# Altium footprint library TVS Diode Unidirectional 14V.PcbLib: 1 footprints
Each footprint in its own frame and in the unit in brackets; x right, y up, seen from the top. Pads: shape width x height; smd on the part's side, far side on the other; paste and mask are expansions set on the pad; w line width, h text height; cw(c..) or ccw(c..) is an arc to the next point about the centre after c.
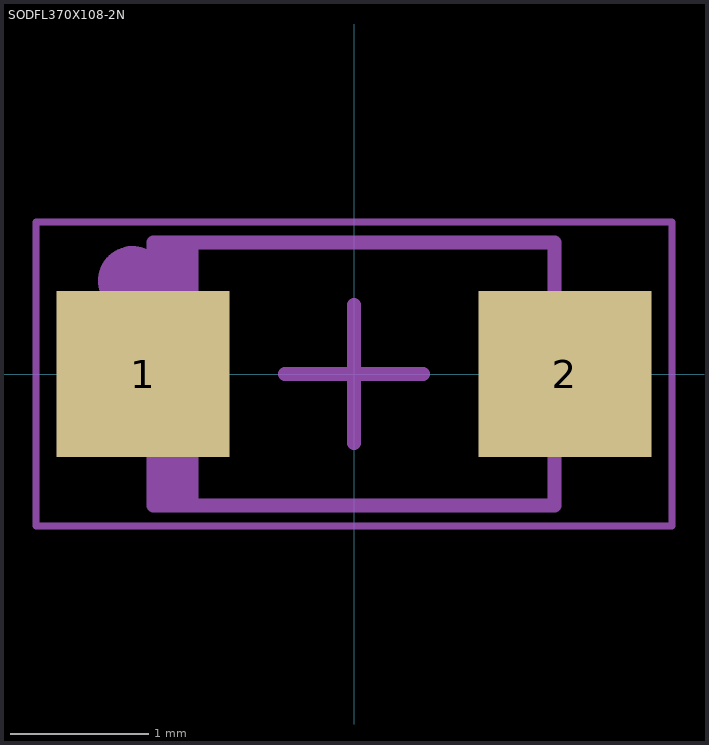
[diagram p0: the footprint, top view; thin cyan lines are the x and y axes]

## SODFL370X108-2N [mm] "SODFL, 2-Leads, Body 1.80x3.70mm, IPC Medium Density"
height 1.08
pads (2):
  rect 1.25x1.2 smd: 1(-1.525,0) 2(1.525,0)
Mechanical 6:
  text "'.Designator'" at -0.925,-0.325 h0.6
Mechanical 8:
  circle w0.25: c-1.6,0.675 r0.125
  lines w0.05: -2.3,-1.1 2.3,-1.1 2.3,1.1 -2.3,1.1 -2.3,-1.1
Mechanical 13:
  region: -1.45,0.95 -1.125,0.95 -1.125,-0.95 -1.45,-0.95
  lines w0.1: -1.45,-0.95 -1.45,0.95 1.45,0.95 1.45,-0.95 -1.45,-0.95
Mechanical 15:
  lines w0.05: -2.3,-1.1 -2.3,1.1 2.3,1.1 2.3,-1.1 -2.3,-1.1
  lines w0.1: -0.5,0 0.5,0 ; 0,-0.5 0,0.5
3D body "SODFL370X108-2N.step": height 1.08, standoff 0, extent -1.85,-0.95 1.85,0.95